# EAGLE library part SPI_RIEGEL (library roboternetz_definitionen)
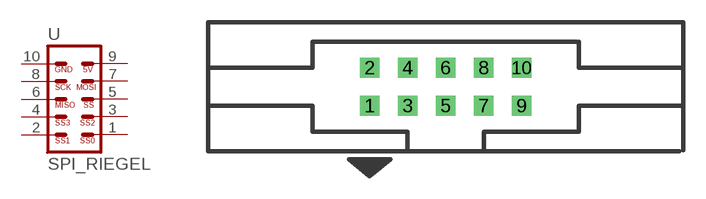
[diagram p4: symbol with the pads of 3M_10; footprint 3M_10]

Designator prefix -

## SPI_RIEGEL  [3M_10]
1  1_SS0  pas
2  2_SS1  pas
3  3_SS2  pas
4  4_SS3  pas
5  5_SS  pas
6  6_MISO  pas
7  7_MOSI  pas
8  8_SCK  pas
9  9_5V  pas
10  10_GND  pas

## Footprint 3M_10 (pad centres in mm)
3M
drill 0.813 square: 1 -5.08,-1.27; 2 -5.08,1.27; 3 -2.54,-1.27; 4 -2.54,1.27; 5 0,-1.27; 6 0,1.27; 7 2.54,-1.27; 8 2.54,1.27; 9 5.08,-1.27; 10 5.08,1.27